# EAGLE library part SFH11-XXPC-D06- (library con-sullins-sxh11)
RECEPTACAL
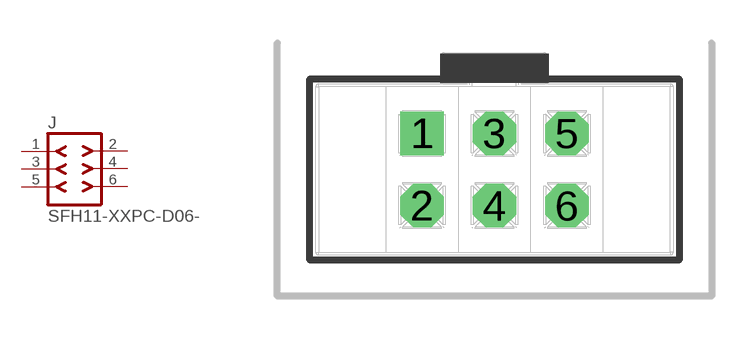
[diagram p0: symbol with the pads of SFH11-XXPC-D06-ST; footprint SFH11-XXPC-D06-ST]

Designator prefix J

## SFH11-XXPC-D06-ST  [SFH11-XXPC-D06-ST]
1  1  pas
2  2  pas
3  3  pas
4  4  pas
5  5  pas
6  6  pas

## Footprint SFH11-XXPC-D06-ST (pad centres in mm)
RECEPTACAL
drill 1.016 square: 1 -2.54,1.27
drill 1.016 octagon: 2 -2.54,-1.27; 3 0,1.27; 4 0,-1.27; 5 2.54,1.27; 6 2.54,-1.27